# Altium schematic symbol library 2MS1-T2-B4-M2-Q-E-S.SchLib: 1 symbol
Pins are listed as number, name and electrical type; pins without a type are passive.

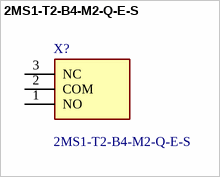
[diagram p0: symbol 2MS1-T2-B4-M2-Q-E-S]

## 2MS1-T2-B4-M2-Q-E-S
designator X?
2M SERIES SUBMINIATURE TOGGLE SWITCH; Manufacturer_Name: Cosland; Geometry.Height: 19.56mm; RS Part Number: *; RS Price/Stock: *; Manufacturer_Part_Number: 2MS1-T2-B4-M2-Q-E-S; Datasheet Link: http://www.kyohritsu.jp/eclib/OTHER/CATALOG/SW/2mseries.pdf
footprint 2MS1T2B4M2QES
pins: 1 NO, 2 COM, 3 NC